# Altium footprint library SO-16_SW.PcbLib: 1 footprints
Each footprint in its own frame and in the unit in brackets; x right, y up, seen from the top. Pads: shape width x height; smd on the part's side, far side on the other; paste and mask are expansions set on the pad; w line width, h text height; cw(c..) or ccw(c..) is an arc to the next point about the centre after c.
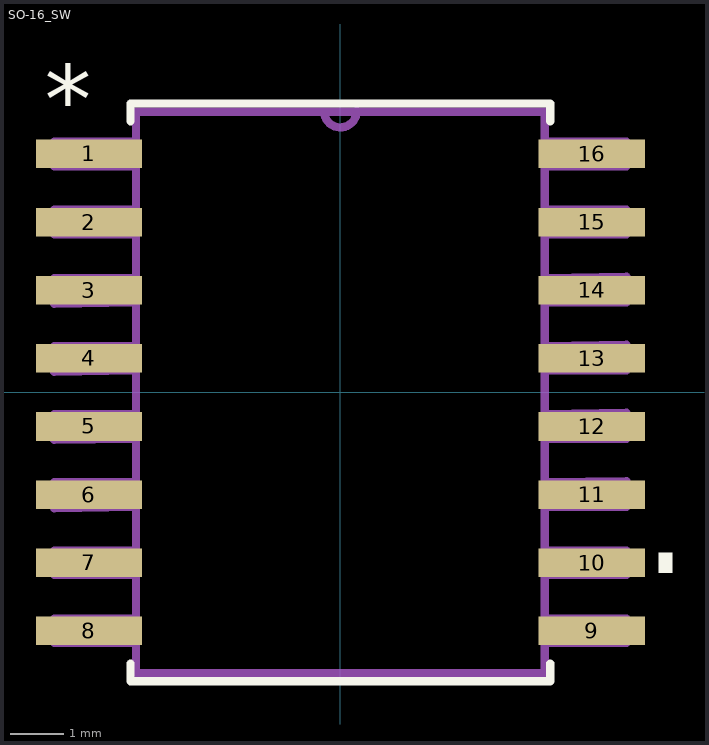
[diagram p0: the footprint, top view; thin cyan lines are the x and y axes]

## SO-16_SW [mil]
pads (16):
  rect 78x21 smd: 1(-184.5,175) 2(-184.5,125) 3(-184.5,75) 4(-184.5,25) 5(-184.5,-25) 6(-184.5,-75) 7(-184.5,-125) 8(-184.5,-175) 9(184.5,-175) 10(184.5,-125) 11(184.5,-75) 12(184.5,-25) 13(184.5,25) 14(184.5,75) 15(184.5,125) 16(184.5,175)
Top Overlay:
  region: 243.5,-132.5 233.5,-132.5 233.5,-117.5 243.5,-117.5
  lines w6: -154,-199 -154,-212 154,-212 154,-199 ; -154,199 -154,212 154,212 154,199
  text "*" at -217,191 h50
Mechanical 13:
  lines w6: -12,206.08 ccw(c0,206.5) 12,206.92 ; -210,-184 -210,-166 -150,-166 -150,-184 -210,-184 ; -210,-134 -210,-116 -150,-116 -150,-134 -210,-134 ; -210,-85 -210,-66 -150,-66 -150,-84 -210,-85 ; -210,-35 -210,-16 -150,-16 -150,-34 -210,-35 ; -210,15 -210,34 -150,34 -150,16 -210,15 ; -210,65 -210,84 -150,84 -150,66 -210,65 ; -210,116 -210,134 -150,134 -150,116 -210,116 ; -210,166 -210,184 -150,184 -150,166 -210,166 ; -150,-206 150,-206 150,206 -12,206 -150,206 -150,-206 ; 150,-184 150,-166 210,-166 210,-184 150,-184 ; 150,-134 150,-116 210,-116 210,-134 150,-134 ; 150,-84 150,-66 210,-65 210,-84 150,-84 ; 150,-34 150,-16 210,-15 210,-34 150,-34 ; 150,16 150,34 210,35 210,16 150,16 ; 150,66 150,84 210,85 210,66 150,66 ; 150,116 150,134 210,134 210,116 150,116 ; 150,166 150,184 210,184 210,166 150,166
  text "*" at -157,154 h50
3D body "step_temp.STEP": height 104, standoff 0, extent -203.25,-202.75 203.25,202.75